# EAGLE library part 691323100008 (library Wurth_Terminal_Blocks_Connectors_rev15d)
WR-TBL Serie 3231 - 3.5mm Vertical PCB Header with Flanges , 8 Pins=>Code : Con_TBL_Pluggable_3.50_PCB_V_691323100008 <http://katalog.we-online.de/media/images/eican/Con_TBL_Pluggable_3.50_PCB_V_6913231000xx_pf2.jpg> Details see: http://katalog.we-online.de/en/em/691_323_100_0xx Created 2014-06-18, Karrer Zheng 2014 (C) Würth Elektronik
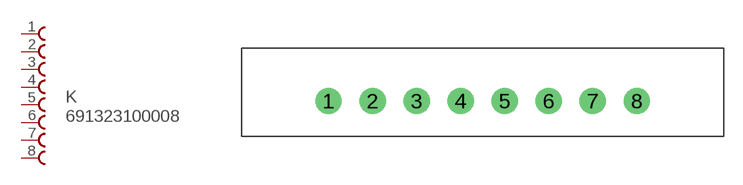
[diagram p14: symbol with the pads of 691323100008; footprint 691323100008]

Designator prefix K

## 691323100008  [691323100008]
1  1  pas
2  2  pas
3  3  pas
4  4  pas
5  5  pas
6  6  pas
7  7  pas
8  8  pas

## Footprint 691323100008 (pad centres in mm)
WR-TBL Serie 3231 - 3.5mm Vertical PCB Header with Flanges , 8 Pins
drill 1.4: 1 -14,0; 2 -10.5,0; 3 -7,0; 4 -3.5,0; 5 0,0; 6 3.5,0; 7 7,0; 8 10.5,0